# Altium footprint library JST_SM04B-SRSS-TB.PcbLib: 1 footprints
Each footprint in its own frame and in the unit in brackets; x right, y up, seen from the top. Pads: shape width x height; smd on the part's side, far side on the other; paste and mask are expansions set on the pad; w line width, h text height; cw(c..) or ccw(c..) is an arc to the next point about the centre after c.
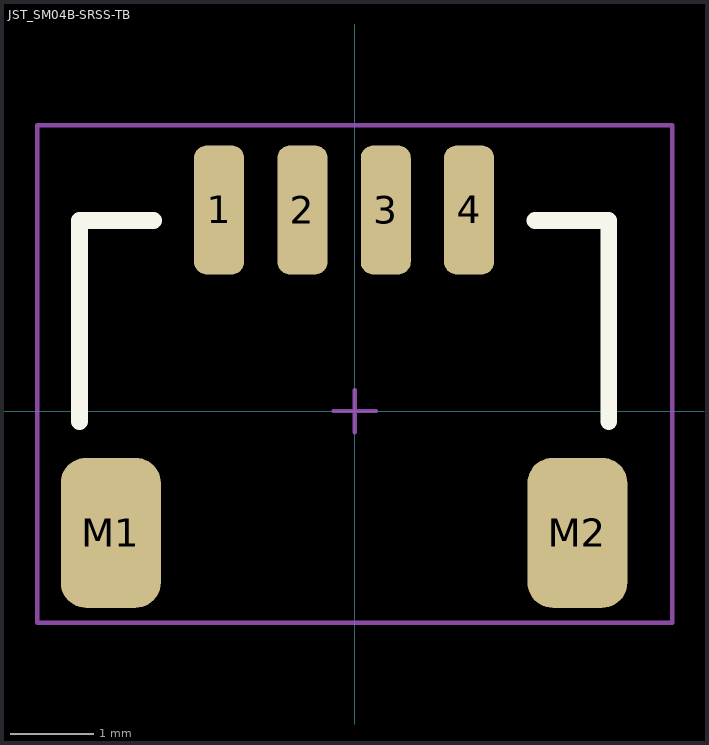
[diagram p0: the footprint, top view; thin cyan lines are the x and y axes]

## JST_SM04B-SRSS-TB [mm]
pads (6):
  rrect50% 0.6x1.55 smd: 1(-1.627,2.413) 2(-0.627,2.413) 3(0.373,2.413) 4(1.373,2.413)
  rrect50% 1.2x1.8 smd: M1(-2.927,-1.462) M2(2.673,-1.462)
Top Overlay:
  lines w0.2: -3.302,-0.127 -3.302,2.286 -2.413,2.286 ; 2.159,2.286 3.048,2.286 3.048,-0.127
Mechanical 15:
  lines w0.05: -0.254,0 0.254,0 ; 0,-0.254 0,0 0,0.254 ; -3.81,-2.54 3.81,-2.54 3.81,3.429 -3.81,3.429 -3.81,-2.54
3D body "SM04B-SRSS-TB.STEP": height 2.97, standoff 0.01, extent -3.127,-2.117 2.873,2.833